# EAGLE library part PBHTD40SPP (library mylib)
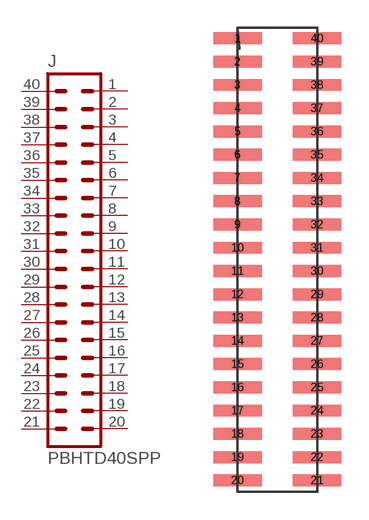
[diagram p8: symbol with the pads of PLHTD40S-GC; footprint PLHTD40S-GC]

Designator prefix J

## PBHTD40SPP  [PLHTD40S-GC]
1  40  pas
2  39  pas
3  38  pas
4  37  pas
5  36  pas
6  35  pas
7  34  pas
8  33  pas
9  32  pas
10  31  pas
11  30  pas
12  29  pas
13  28  pas
14  27  pas
15  26  pas
16  25  pas
17  24  pas
18  23  pas
19  22  pas
20  21  pas
21  20  pas
22  19  pas
23  18  pas
24  17  pas
25  16  pas
26  15  pas
27  14  pas
28  13  pas
29  12  pas
30  11  pas
31  10  pas
32  9  pas
33  8  pas
34  7  pas
35  6  pas
36  5  pas
37  4  pas
38  3  pas
39  2  pas
40  1  pas

## Footprint PLHTD40S-GC (pad centres in mm)
smd 2.65 x 0.65: 1 0,24.13; 2 0,22.86; 3 0,21.59; 4 0,20.32; 5 0,19.05; 6 0,17.78; 7 0,16.51; 8 0,15.24; 9 0,13.97; 10 0,12.7; 11 0,11.43; 12 0,10.16; 13 0,8.89; 14 0,7.62; 15 0,6.35; 16 0,5.08; 17 0,3.81; 18 0,2.54; 19 0,1.27; 20 0,0; 21 4.35,0; 22 4.35,1.27; 23 4.35,2.54; 24 4.35,3.81; 25 4.35,5.08; 26 4.35,6.35; 27 4.35,7.62; 28 4.35,8.89; 29 4.35,10.16; 30 4.35,11.43; 31 4.35,12.7; 32 4.35,13.97; 33 4.35,15.24; 34 4.35,16.51; 35 4.35,17.78; 36 4.35,19.05; 37 4.35,20.32; 38 4.35,21.59; 39 4.35,22.86; 40 4.35,24.13